# EAGLE library part LTC4449 (library Engs125_lib_UPDATEFeb22_with_logo)
Linear Technology LTC4449 gate driver, a high frequency gate driver that is designed to drive two N-Channel MOSFETs in a synchronous DC/DC converter.2mm by 3mm DFN package. Date created: 10/4/2017
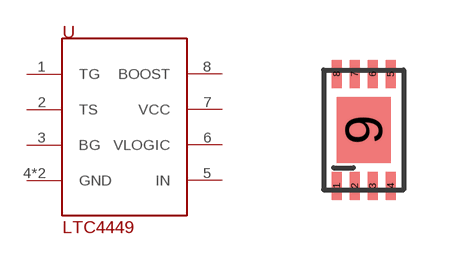
[diagram p0: symbol with the pads of DCB8; footprint DCB8]

Designator prefix U

## LTC4449  [DCB8]
1  TG
2  TS
3  BG
4  GND
5  IN
6  VLOGIC
7  VCC
8  BOOST
9  GND

## Footprint DCB8 (pad centres in mm)
This package is for Linear Tehcnology part LTC449 gate driver. Creation date: 9/12/2017
smd 0.25 x 0.7: 1 -0.675,-1.4; 2 -0.225,-1.4; 3 0.225,-1.4; 4 0.675,-1.4; 5 0.675,1.4; 6 0.225,1.4; 7 -0.225,1.4; 8 -0.675,1.4
smd 1.35 x 1.65: 9 0,0